# Altium integrated library M20-9990745.IntLib: 1 symbol
Pins are listed as number, name and electrical type; pins without a type are passive.

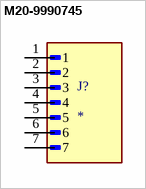
[diagram p0: symbol M20-9990745]

## M20-9990745
designator J?
2.54mm (0.1) Pitch SIL Vertical Throughboard Pin Header, 6.1mm mating pin height, gold (hi-temp mould), 7 contacts; MF: Harwin; MP: M20-9990745; SnapEDA_Link: https://www.snapeda.com/parts/M20-9990745/Harwin/view-part/?ref=snap; Package: None; Value: *; Check_prices: https://www.snapeda.com/parts/M20-9990745/Harwin/view-part/?ref=eda
footprint HARWIN_M20-9990745
pins: 1, 2, 3, 4, 5, 6, 7